# EAGLE library part ST32-PREMIER-EXTENSION (library X893)
Primer2 Extension board http://www.stm32circle.com/resources/stm32primer2.php
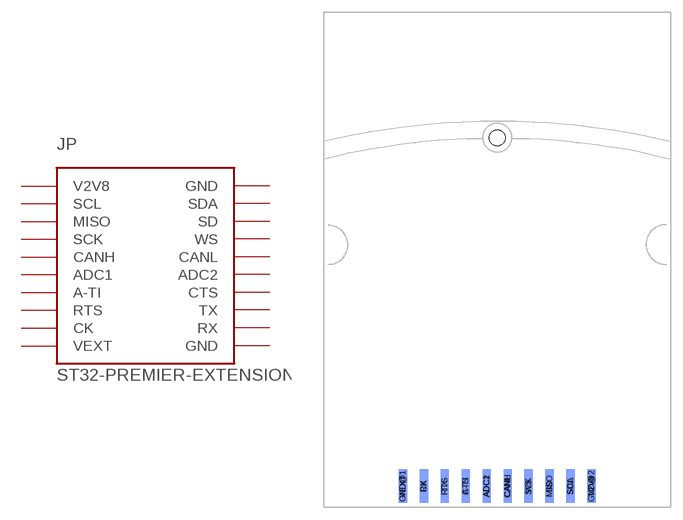
[diagram p71: symbol with the pads of ST32-PREMIER-EXTENSION; footprint ST32-PREMIER-EXTENSION]

Designator prefix JP

## ST32-PREMIER-EXTENSION  [ST32-PREMIER-EXTENSION]
A-TI  A-TI
ADC1  ADC1  pas
ADC2  ADC2  pas
CANH  CANH
CANL  CANL
CK  CK
CTS  CTS
GND@1  GND  pwr
GND@2  GND  pwr
MISO  MISO
RTS  RTS
RX  RX
SCK  SCK
SCL  SCL
SD  SD
SDA  SDA
TX  TX
V2V8  V2V8  pas
VEXT  VEXT  pas
WS  WS

## Footprint ST32-PREMIER-EXTENSION (pad centres in mm)
smd 1.016 x 4.064 bottom: A-TI -3.81,2.54; ADC1 -1.27,2.54; CANH 1.27,2.54; CK -8.89,2.54; MISO 6.35,2.54; RTS -6.35,2.54; SCK 3.81,2.54; SCL 8.89,2.54; V2V8 11.43,2.54; VEXT -11.43,2.54
smd 1.016 x 4.064: ADC2 -1.27,2.54; CANL 1.27,2.54; CTS -3.81,2.54; GND@1 -11.43,2.54; GND@2 11.43,2.54; RX -8.89,2.54; SD 6.35,2.54; SDA 8.89,2.54; TX -6.35,2.54; WS 3.81,2.54
hole 1.9 at 0,44.8